# Altium footprint library SELECTOR.PcbLib: 3 footprints
Each footprint in its own frame and in the unit in brackets; x right, y up, seen from the top. Pads: shape width x height; smd on the part's side, far side on the other; paste and mask are expansions set on the pad; w line width, h text height; cw(c..) or ccw(c..) is an arc to the next point about the centre after c.
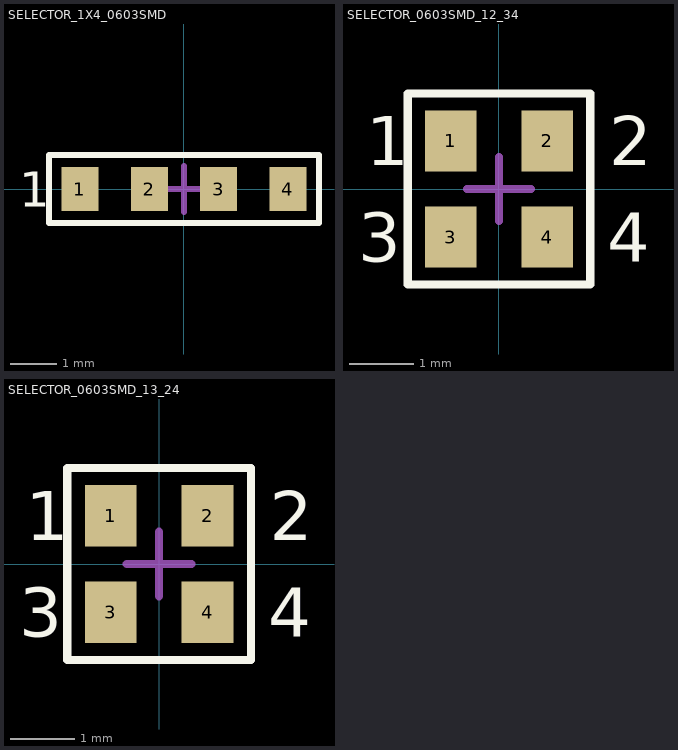
[diagram p0: the footprints below, top view; thin cyan lines are the x and y axes]

## SELECTOR_1X4_0603SMD [mm]
height 0.7
pads (4):
  rect 0.8x0.95 smd: 1(-2.25,0) 2(-0.75,0) 3(0.75,0) 4(2.25,0)
Top Overlay:
  lines w0.127: -2.922,-0.737 -2.922,0.737 2.922,0.737 2.922,-0.737 -2.922,-0.737
  text "1" at -3.569,-0.381 h0.76
Mechanical 15:
  lines w0.127: -0.5,0 0.5,0 ; 0,-0.5 0,0.5
3D body: height 0.44, standoff -0.03, extent -2.3,-0.406 -0.7,0.394
3D body: height 0.44, standoff -0.03, extent 0.7,-0.394 2.3,0.406

## SELECTOR_0603SMD_12_34 [mm]
height 0.7
pads (4):
  rect 0.8x0.95 smd: 1(-0.75,0.75) 2(0.75,0.75) 3(-0.75,-0.75) 4(0.75,-0.75)
Top Overlay:
  lines w0.127: -1.422,-1.487 1.422,-1.487 1.422,1.487 -1.422,1.487 -1.422,-1.487
  text "2" at 1.715,0.369 h0.76
  text "4" at 1.69,-1.131 h0.76
  text "3" at -2.196,-1.131 h0.76
  text "1" at -2.069,0.369 h0.76
Mechanical 15:
  lines w0.127: -0.5,0 0.5,0 ; 0,-0.5 0,0.5
3D body: height 0.44, standoff -0.03, extent -0.8,-1.156 0.8,-0.356
3D body: height 0.44, standoff -0.03, extent -0.8,0.344 0.8,1.144

## SELECTOR_0603SMD_13_24 [mm]
height 0.7
pads (4):
  rect 0.8x0.95 smd: 1(-0.75,0.75) 2(0.75,0.75) 3(-0.75,-0.75) 4(0.75,-0.75)
Top Overlay:
  lines w0.127: -1.422,-1.487 -1.422,1.487 1.422,1.487 1.422,-1.487 -1.422,-1.487
  text "1" at -2.069,0.369 h0.76
  text "3" at -2.171,-1.131 h0.76
  text "4" at 1.69,-1.131 h0.76
  text "2" at 1.715,0.369 h0.76
Mechanical 15:
  lines w0.127: -0.5,0 0.5,0 ; 0,-0.5 0,0.5
3D body: height 0.44, standoff -0.03, extent 0.356,-0.8 1.156,0.8
3D body: height 0.44, standoff -0.03, extent -1.144,-0.8 -0.344,0.8